# Altium footprint library MyLib.PcbLib: 96 footprints (part 2 of 6)
Each footprint in its own frame and in the unit in brackets; x right, y up, seen from the top. Pads: shape width x height; smd on the part's side, far side on the other; paste and mask are expansions set on the pad; w line width, h text height; cw(c..) or ccw(c..) is an arc to the next point about the centre after c.
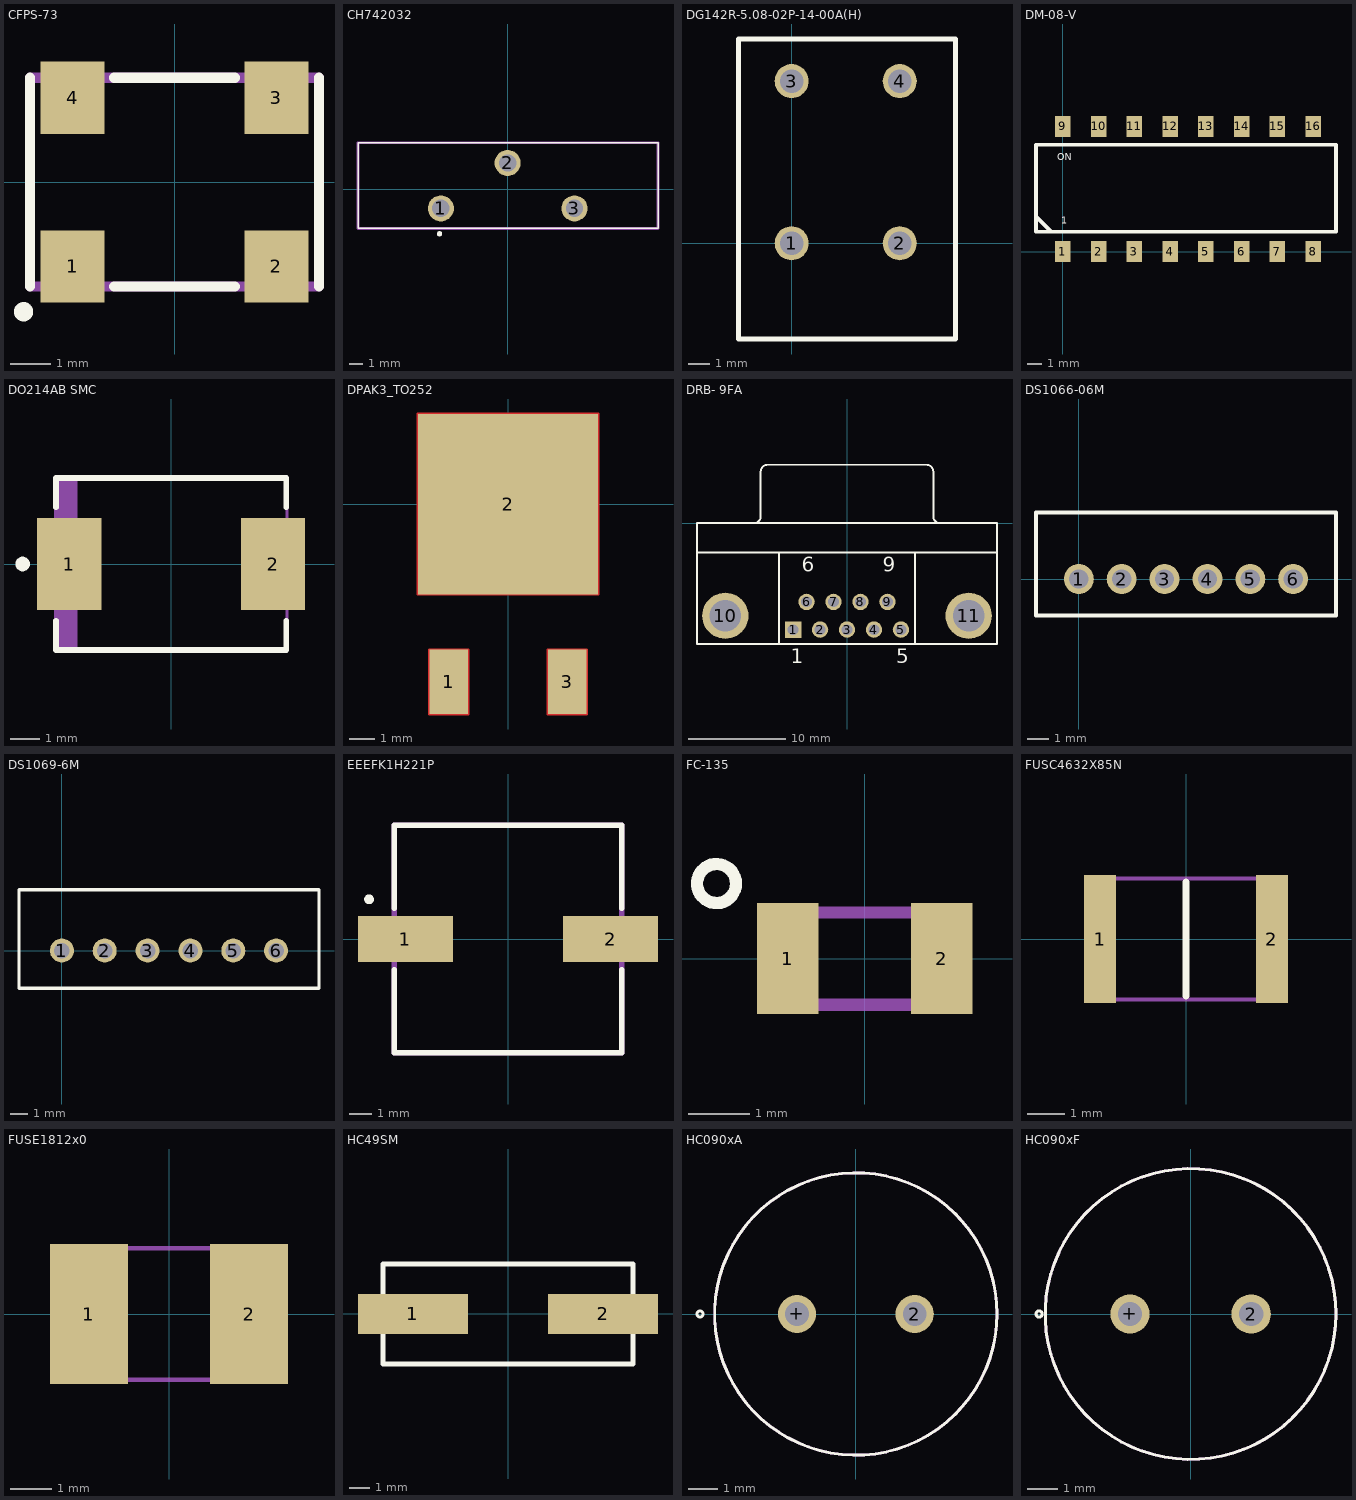
[diagram p1: the footprints below, top view; thin cyan lines are the x and y axes]

## CFPS-73 [mm]
pads (4):
  rect 1.6x1.8 smd: 1(-2.54,-2.1) 2(2.54,-2.1) 3(2.54,2.1) 4(-2.54,2.1)
Top Overlay:
  circle w0.254: c-3.761,-3.23 r0.114
  lines w0.254: -3.6,-2.6 -3.6,2.6 ; -1.5,-2.6 1.5,-2.6 ; -1.5,2.6 1.5,2.6 ; 3.6,-2.6 3.6,2.6
Mechanical 15:
  lines w0.254: -3.6,-2.6 -3.6,2.6 3.6,2.6 3.6,-2.6 -3.6,-2.6
3D body "User Library-CFPS-73.STEP": height 1.52, standoff 0, extent -3.5,-2.51 3.5,2.51

## CH742032 [mm]
pads (3):
  round 1.95 hole 1.3: 1(-5,-1.45) 2(0,1.95) 3(5,-1.45)
Top Overlay:
  lines w0.1: -11.2,-2.95 11.25,-2.95 11.25,3.45 -11.2,3.45 -11.2,-2.95
  lines w0.2: -5.2,-3.35 cw(c-5.1,-3.35) -5,-3.35 cw(c-5.1,-3.35) -5.2,-3.35
Mechanical 15:
  lines w0.2: -11.2,-2.95 11.25,-2.95 11.25,3.45 -11.2,3.45 -11.2,-2.95
3D body "User Library-Battery holder CR 2032.step": height 18.1, standoff -3, extent -11.224,-2.95 11.275,3.45

## DG142R-5.08-02P-14-00A(H) [mm]
height 13.4
pads (4):
  round 1.6 hole 1.1: 1(0,0) 2(5.08,0) 3(0,7.62) 4(5.08,7.62)
Top Overlay:
  lines w0.254: -2.5,-4.5 -2.5,-2.4 -2.5,9.6 7.7,9.6 7.7,-4.5 -2.5,-4.5
Mechanical 1:
  text "Front" at 0,-3.3 h1.2

## DM-08-V [mm] "dipswitch8"
height 3
pads (16):
  rect 1.1x1.5 smd: 1(0,0) 2(2.54,0) 3(5.08,0) 4(7.62,0) 5(10.16,0) 6(12.7,0) 7(15.24,0) 8(17.78,0) 9(0,8.9) 10(2.54,8.9) 11(5.08,8.9) 12(7.62,8.9) 13(10.16,8.9) 14(12.7,8.9) 15(15.24,8.9) 16(17.78,8.9)
Top Overlay:
  lines w0.254: -1.9,2.8 -1.9,2.5 -0.8,1.4 ; -1.9,1.4 19.4,1.4 19.4,7.6 -1.9,7.6 -1.9,1.4
  text "1" at -0.1,2 h0.5
  text "ON" at -0.4,6.5 h0.5
3D body "DM-08-V.stp": height 3.75, standoff 0.05, extent -1.48,-0.35 19.28,9.35

## DO214AB SMC [mm]
pads (2):
  rect 2.2x3.15 smd: 1(-3.5,0) 2(3.5,0)
Top Overlay:
  circle w0.25: c-5.1,0 r0.125
  lines w0.2: -3.95,-1.95 -3.95,-2.95 3.95,-2.95 3.95,-1.95 ; -3.95,1.95 -3.95,2.95 3.95,2.95 3.95,1.95
Mechanical 15:
  lines w0.1: -3.875,-2.95 -3.875,2.95 ; -3.775,-2.95 -3.775,2.95 ; -3.675,-2.95 -3.675,2.95 ; -3.575,-2.95 -3.575,2.95 ; -3.475,-2.95 -3.475,2.95 ; -3.375,-2.95 -3.375,2.95 ; -3.275,-2.95 -3.275,2.95 ; -3.975,-2.95 -3.975,2.95 3.975,2.95 3.975,-2.95 -3.975,-2.95
3D body "User Library-DO-214AB(SMC).STEP": height 2.62, standoff -0.02, extent -4.064,-3.149 4.064,3.15

## DPAK3_TO252 [mm]
pads (3):
  rect 1.5x2.5 smd: 1(-2.3,-6.9) 3(2.3,-6.9)
  rect 7x7 smd: 2(0,0)
Top Layer:
  rectangle: -3.5,-3.5 3.5,3.5
  rectangle: -3.05,-8.15 -1.55,-5.65
  rectangle: 1.55,-8.15 3.05,-5.65
  lines w0.1: -2.3,-6.9 -2.3,-8.15 ; 2.3,-6.9 2.3,-8.15 ; -2.3,-8.15 -3.05,-8.15 -3.05,-6.9 -3.05,-5.65 -2.3,-5.65 -1.55,-5.65 -1.55,-8.15 -2.3,-8.15 ; 2.3,-8.15 3.05,-8.15 3.05,-5.65 2.3,-5.65 1.55,-5.65 1.55,-6.9 1.55,-8.15 2.3,-8.15 ; -3.5,-3.5 -3.5,0 -3.5,3.5 3.5,3.5 3.5,-3.5 -3.5,-3.5

## DRB- 9FA [mm]
pads (11):
  rect 1.69x1.69 hole 1.09: 1(-5.54,-10.92)
  round 1.69 hole 1.09: 2(-2.77,-10.92) 3(0,-10.92) 4(2.77,-10.92) 5(5.54,-10.92) 6(-4.155,-8.08) 7(-1.385,-8.08) 8(1.385,-8.08) 9(4.155,-8.08)
  round 4.76 hole 3.26: 10(-12.495,-9.5) 11(12.495,-9.5)
Top Overlay:
  lines w0.2: -15.4,-3 15.4,-3 ; -9.56,0.005 ccw(c-9.56,0.7) -8.865,0.7 -8.865,5.3 ; -8.86,5.305 cw(c-8.165,5.305) -8.165,6 8.165,6 cw(c8.165,5.305) 8.86,5.305 ; -7,-12.4 -7,-3 ; 7,-12.4 7,-3 ; 8.865,5.3 8.865,0.7 ccw(c9.56,0.7) 9.56,0.005 ; -15.4,-12.4 15.4,-12.4 15.4,0 -15.4,0 -15.4,-12.4
  text "6" at -4.655,-4.975 h1.5
  text "9" at 3.655,-4.975 h1.5
  text "5" at 5.04,-14.375 h1.5
  text "1" at -5.79,-14.375 h1.5
3D body "User Library-DB-9F.step": height 12.25, standoff -4.15, extent -15.3,-12.825 15.2,3.875

## DS1066-06M [mm]
pads (6):
  round 1.4 hole 0.9: 1(0,0) 2(2,0) 3(4,0) 4(6,0) 5(8,0) 6(10,0)
Top Overlay:
  lines w0.2: -2,-1.7 -2,3.1 12,3.1 12,-1.7 -2,-1.7
3D body "DS1066-6MVW6X.stp": height 6, standoff -3.4, extent -2,-1.7 12,3.1

## DS1069-6M [mm]
pads (6):
  round 1.4 hole 0.9: 1(0,0) 2(2.5,0) 3(5,0) 4(7.5,0) 5(10,0) 6(12.5,0)
Top Overlay:
  lines w0.2: -2.5,-2.2 -2.5,3.55 15,3.55 15,-2.2 -2.5,-2.2
3D body "User Library-DS1069-6 CWF-6.step": height 7, standoff -3.5, extent -2.5,-2.2 15,3.55

## EEEFK1H221P [mm]
pads (2):
  rect 4.3x2.1 smd: 1(-4.65,0) 2(4.65,0)
Top Overlay:
  circle w0.254: c-6.3,1.8 r0.092
  lines w0.254: -5.15,-1.4 -5.15,-5.15 5.15,-5.15 5.15,-1.4 ; -5.15,1.4 -5.15,5.15 5.15,5.15 5.15,1.4
Mechanical 15:
  lines w0.254: -5.15,-5.15 5.15,-5.15 5.15,5.15 -5.15,5.15 -5.15,-5.15
3D body "æ10 SIZE CODE G.stp": height 10.3, standoff 0.1, extent -5.85,-5.15 5.85,5.15

## FC-135 [mm]
pads (2):
  rect 1x1.8 smd: 1(-1.25,0) 2(1.25,0)
Top Overlay:
  circle w0.2: c-2.409,1.22 r0.317
Mechanical 15:
  lines w0.2: -1.6,-0.75 1.6,-0.75 1.6,0.75 -1.6,0.75 -1.6,-0.75
3D body "User Library-Crystal FC-135.STEP": height 0.8, standoff 0, extent -1.6,-0.75 1.6,0.75

## FUSC4632X85N [mm]
pads (2):
  rect 0.85x3.43 smd: 1(-2.3,0) 2(2.3,0)
Top Overlay:
  lines w0.2: 0,-1.52 0,1.52
Mechanical 15:
  lines w0.1: -2.275,-1.62 -2.275,1.62 2.275,1.62 2.275,-1.62 -2.275,-1.62
3D body "MF-MSMF110_16-2.stp": height 0.85, standoff 0, extent -2.275,-1.62 2.275,1.62

## FUSE1812x0 [mm]
pads (2):
  rect 1.9x3.4 smd: 1(-1.95,0) 2(1.95,0)
Mechanical 15:
  region: -2.39,1.649 -1.438,1.649 -1.438,-1.652 -2.39,-1.652
  region: 1.45,1.649 2.398,1.649 2.398,-1.653 1.45,-1.653
  lines w0.102: -1.473,1.6 1.473,1.6 ; -1.448,-1.6 1.473,-1.6
3D body "MF-MSMF050-2.stp": height 0.85, standoff 0, extent -2.275,-1.62 2.275,1.62

## HC49SM [mm]
pads (2):
  rect 5.5x2 smd: 1(-4.75,0) 2(4.75,0)
Top Overlay:
  lines w0.254: -6.25,-2.5 -6.25,2.5 6.25,2.5 6.25,-2.5 -6.25,-2.5
3D body "User Library-HC-49SM-1.STEP": height 3.8, standoff 0, extent -6.2,-2.35 6.2,2.35

## HC090xA [mm]
pads (2):
  round 1.3 hole 0.8: 2(2,0) +(-2,0)
Top Overlay:
  circle w0.1: c0,0 r4.8
  circle w0.1: c-5.298,0 r0.102
Mechanical 13:
  circle w0.1: c0,0 r4.8
3D body "AT-1127-ST-2-R.STEP": height 4.3, standoff -4.5, extent -6,-4.5 4.5,4.5

## HC090xF [mm]
pads (2):
  round 1.3 hole 0.8: 2(2,0) +(-2,0)
Top Overlay:
  circle w0.1: c-5,0 r0.102
  circle w0.1: c0,0 r4.8
Mechanical 13:
  circle w0.1: c0,0 r4.8
3D body "Buzzer- Mallory PB-09N23P-03Q.STEP": height 5.5, standoff -7.5, extent -4.5,-4.5 4.5,4.5